# EAGLE library part FPC-0.3X15 (library pimoroni-connectors)
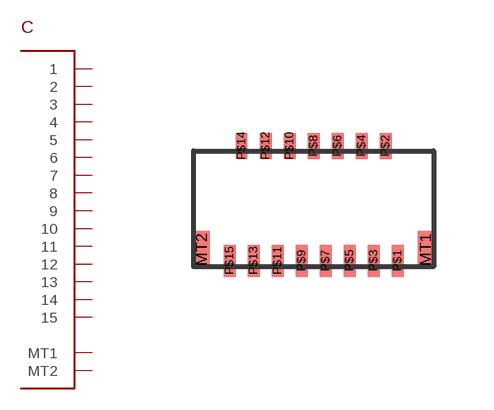
[diagram p17: symbol with the pads of FPC_0.3X15; footprint FPC_0.3X15]

Designator prefix C

## FPC-0.3X15  [FPC_0.3X15]
MT1  MT1
MT2  MT2
P$1  1
P$2  2
P$3  3
P$4  4
P$5  5
P$6  6
P$7  7
P$8  8
P$9  9
P$10  10
P$11  11
P$12  12
P$13  13
P$14  14
P$15  15

## Footprint FPC_0.3X15 (pad centres in mm)
smd 0.4 x 0.95: MT1 2.8,-2.925; MT2 -2.8,-2.925
smd 0.3 x 0.8: P$1 2.1,-3.2; P$3 1.5,-3.2; P$5 0.9,-3.2; P$7 0.3,-3.2; P$9 -0.3,-3.2; P$11 -0.9,-3.2; P$13 -1.5,-3.2; P$15 -2.1,-3.2
smd 0.3 x 0.65: P$2 1.8,-0.325; P$4 1.2,-0.325; P$6 0.6,-0.325; P$8 0,-0.325; P$10 -0.6,-0.325; P$12 -1.2,-0.325; P$14 -1.8,-0.325